# Altium footprint library CSD16570Q5B.PcbLib: 1 footprints
Each footprint in its own frame and in the unit in brackets; x right, y up, seen from the top. Pads: shape width x height; smd on the part's side, far side on the other; paste and mask are expansions set on the pad; w line width, h text height; cw(c..) or ccw(c..) is an arc to the next point about the centre after c.
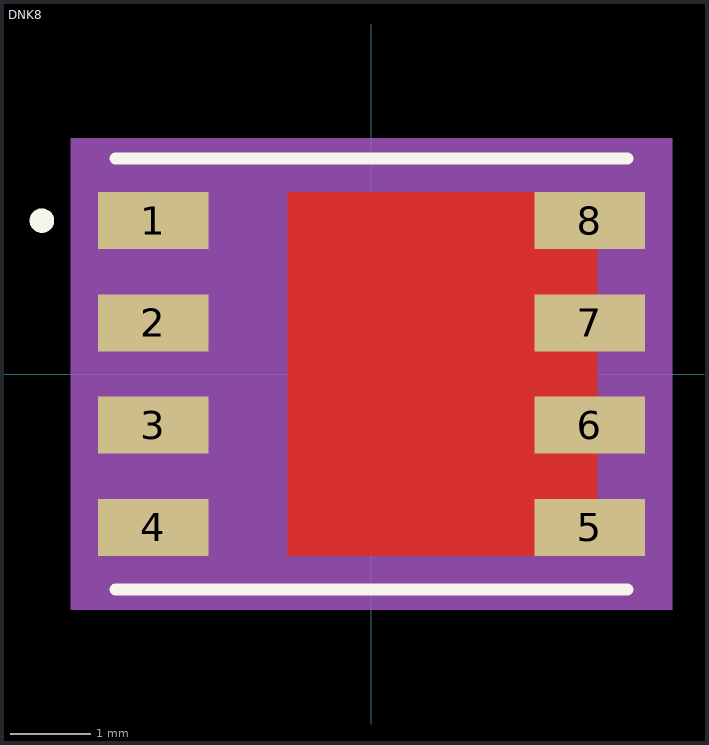
[diagram p0: the footprint, top view; thin cyan lines are the x and y axes]

## DNK8 [mm]
pads (8):
  rect 1.372x0.71 smd paste-0.673: 1(-2.712,1.905) 2(-2.712,0.635) 3(-2.712,-0.635) 4(-2.712,-1.905) 5(2.712,-1.905) 6(2.712,-0.635) 7(2.712,0.635) 8(2.712,1.905)
Top Layer:
  region: -1.042,-2.26 -1.042,2.26 2.808,2.26 2.808,-2.26
Top Overlay:
  circle w0.152: c-4.091,1.905 r0.076
  lines w0.152: -3.177,-2.677 3.177,-2.677 ; -3.177,2.677 3.177,2.677
Top Paste:
  region: -1.581,2.16 -2.665,2.16 -2.665,0.853 -1.581,0.853
  region: -1.581,0.653 -2.665,0.653 -2.665,-0.653 -1.581,-0.653
  region: -1.581,-0.853 -2.665,-0.853 -2.665,-2.16 -1.581,-2.16
  region: -0.298,2.16 -1.381,2.16 -1.381,0.853 -0.298,0.853
  region: -0.298,0.653 -1.381,0.653 -1.381,-0.653 -0.298,-0.653
  region: -0.298,-0.853 -1.381,-0.853 -1.381,-2.16 -0.298,-2.16
  region: 0.985,2.16 -0.098,2.16 -0.098,0.853 0.985,0.853
  region: 0.985,0.653 -0.098,0.653 -0.098,-0.653 0.985,-0.653
  region: 0.985,-0.853 -0.098,-0.853 -0.098,-2.16 0.985,-2.16
  region: -2.127,2.159 -3.297,2.159 -3.297,1.651 -2.127,1.651
  region: -2.127,0.889 -3.297,0.889 -3.297,0.381 -2.127,0.381
  region: -2.127,-0.381 -3.297,-0.381 -3.297,-0.889 -2.127,-0.889
  region: -2.127,-1.651 -3.297,-1.651 -3.297,-2.159 -2.127,-2.159
  region: 3.297,-1.651 2.127,-1.651 2.127,-2.159 3.297,-2.159
  region: 3.297,-0.381 2.127,-0.381 2.127,-0.889 3.297,-0.889
  region: 3.297,0.889 2.127,0.889 2.127,0.381 3.297,0.381
  region: 3.297,2.159 2.127,2.159 2.127,1.651 3.297,1.651
  region: -1.581,2.16 -2.665,2.16 -2.665,0.853 -1.581,0.853
  region: -1.581,0.653 -2.665,0.653 -2.665,-0.653 -1.581,-0.653
  region: -1.581,-0.853 -2.665,-0.853 -2.665,-2.16 -1.581,-2.16
  region: -0.298,2.16 -1.381,2.16 -1.381,0.853 -0.298,0.853
  region: -0.298,0.653 -1.381,0.653 -1.381,-0.653 -0.298,-0.653
  region: -0.298,-0.853 -1.381,-0.853 -1.381,-2.16 -0.298,-2.16
  region: 0.985,2.16 -0.098,2.16 -0.098,0.853 0.985,0.853
  region: 0.985,0.653 -0.098,0.653 -0.098,-0.653 0.985,-0.653
  region: 0.985,-0.853 -0.098,-0.853 -0.098,-2.16 0.985,-2.16
  region: -1.581,2.16 -2.665,2.16 -2.665,0.853 -1.581,0.853
  region: -1.581,0.653 -2.665,0.653 -2.665,-0.653 -1.581,-0.653
  region: -1.581,-0.853 -2.665,-0.853 -2.665,-2.16 -1.581,-2.16
  region: -0.298,2.16 -1.381,2.16 -1.381,0.853 -0.298,0.853
  region: -0.298,0.653 -1.381,0.653 -1.381,-0.653 -0.298,-0.653
  region: -0.298,-0.853 -1.381,-0.853 -1.381,-2.16 -0.298,-2.16
  region: 0.985,2.16 -0.098,2.16 -0.098,0.853 0.985,0.853
  region: 0.985,0.653 -0.098,0.653 -0.098,-0.653 0.985,-0.653
  region: 0.985,-0.853 -0.098,-0.853 -0.098,-2.16 0.985,-2.16
Top Solder:
  region: -2.026,2.26 -3.398,2.26 -3.398,1.55 -2.026,1.55
  region: -2.026,0.99 -3.398,0.99 -3.398,0.28 -2.026,0.28
  region: -2.026,-0.28 -3.398,-0.28 -3.398,-0.99 -2.026,-0.99
  region: -2.026,-1.55 -3.398,-1.55 -3.398,-2.26 -2.026,-2.26
  region: 3.398,-1.55 2.026,-1.55 2.026,-2.26 3.398,-2.26
  region: 3.398,-0.28 2.026,-0.28 2.026,-0.99 3.398,-0.99
  region: 3.398,0.99 2.026,0.99 2.026,0.28 3.398,0.28
  region: 3.398,2.26 2.026,2.26 2.026,1.55 3.398,1.55
  region: -2.765,-2.26 -2.765,2.26 1.085,2.26 1.085,-2.26
Mechanical 5:
  region: 3.736,-2.931 -3.736,-2.931 -3.736,2.931 3.736,2.931
Mechanical 13:
  circle w0: c-1.983,1.905 r0.076
  lines w0: -0.305,2.55 ccw(c0,2.55) 0.305,2.55
  lines w0.025: -3.05,-2.55 3.05,-2.55 3.05,2.55 -3.05,2.55 -3.05,-2.55
Mechanical 15:
  region: -3.304,-2.591 -3.609,-2.591 -3.609,2.591 -3.304,2.591 -3.304,2.804 3.304,2.804 3.304,2.591 3.609,2.591 3.609,-2.591 3.304,-2.591 3.304,-2.804 -3.304,-2.804
  lines w0.152: -3.609,-2.591 -3.609,2.591 -3.304,2.591 -3.304,2.804 3.304,2.804 3.304,2.591 3.609,2.591 3.609,-2.591 3.304,-2.591 3.304,-2.804 -3.304,-2.804 -3.304,-2.591 -3.609,-2.591
3D body: height 0.25, standoff 0, extent 0,0 0.254,0.254